# Altium integrated library Holtek Semiconductor Power Management.IntLib: 165 symbols (part 2 of 3)
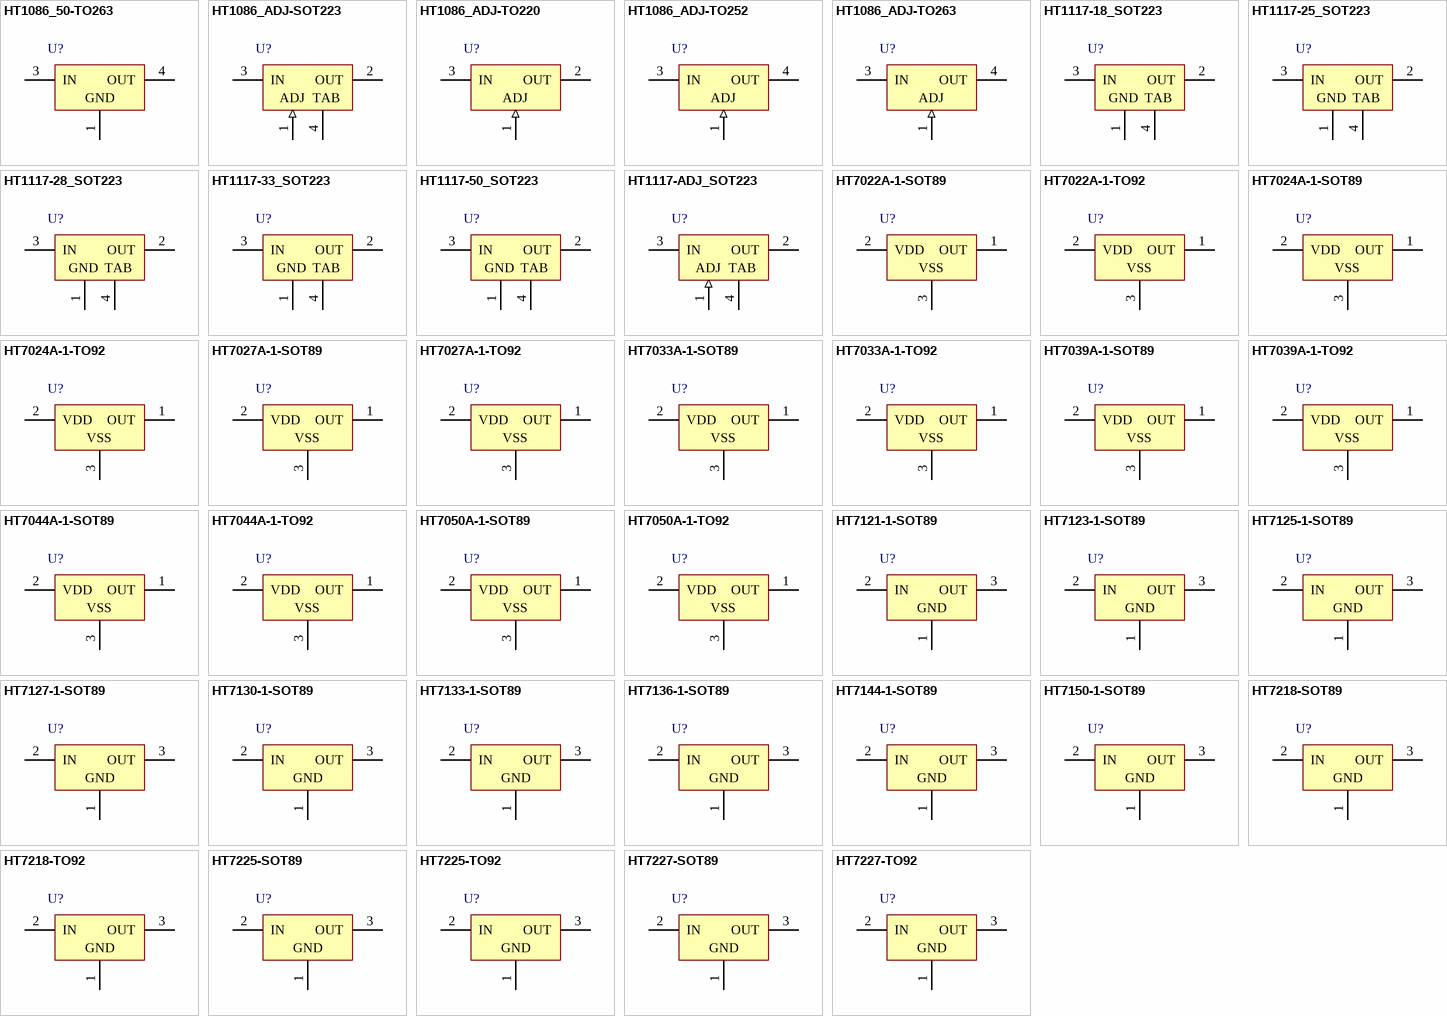
[diagram p5: symbols HT1086_50-TO263 to HT7227-TO92]

## HT7024A-1-TO92
designator U?
TinyPower Voltage Detector, 2.4V Detect, TO92 Pkg; DatasheetVersion: Rev1.5, Sep-2008; PackageVersion: 25/05/2010; PackageReference: TO92; PackageDescription: 3-pin TO92, Body Dia. 4.7mm; Lead Dia. 0.51 mm (max); ComponentLink1Description: Manufacturer URL; ComponentLink1URL: http://www.holtek.com/; ComponentLink2Description: Datasheet; ComponentLink2URL: http://www.holtek.com/pdf/consumer/70xxa_1v150.pdf; ComponentLink3Description: Package Specification; ComponentLink3URL: http://www.holtek.com/english/literature/package.pdf
footprint TO92 (TO, Flat Index; 3 In-Line, Axial Leads; Body Dia. 4.7mm; Lead Dia. 0.51 mm (max))
pins: 1 OUT (power), 2 VDD (power), 3 VSS (power)

## HT7027A-1-SOT89
designator U?
TinyPower Voltage Detector, 2.7V Detect, SOT89 Pkg; DatasheetVersion: Rev1.5, Sep-2008; PackageVersion: 25/05/2010; PackageReference: SOT89; PackageDescription: 3-Pin SOT-89 Package 1.5 mm Pitch, 4.1 mm Lead Span; Code_IPC: SOT89; ComponentLink1Description: Manufacturer URL; ComponentLink1URL: http://www.holtek.com/; ComponentLink2Description: Datasheet; ComponentLink2URL: http://www.holtek.com/pdf/consumer/70xxa_1v150.pdf; ComponentLink3Description: Package Specification; ComponentLink3URL: http://www.holtek.com/english/literature/package.pdf
footprint SOT89_N (SOT89, 3-Leads, Body 4.5x2.4 mm, Pitch 1.5mm, Lead Span 4.1mm, IPC Medium Density)
footprint SOT89_L (SOT89, 3-Leads, Body 4.5x2.4 mm, Pitch 1.5mm, Lead Span 4.1mm, IPC High Density)
footprint SOT89_M (SOT89, 3-Leads, Body 4.5x2.4 mm, Pitch 1.5mm, Lead Span 4.1mm, IPC Low Density)
pins: 1 OUT (power), 2 VDD (power), 3 VSS (power)

## HT7027A-1-TO92
designator U?
TinyPower Voltage Detector, 2.7V Detect, TO92 Pkg; DatasheetVersion: Rev1.5, Sep-2008; PackageVersion: 25/05/2010; PackageReference: TO92; PackageDescription: 3-pin TO92, Body Dia. 4.7mm; Lead Dia. 0.51 mm (max); ComponentLink1Description: Manufacturer URL; ComponentLink1URL: http://www.holtek.com/; ComponentLink2Description: Datasheet; ComponentLink2URL: http://www.holtek.com/pdf/consumer/70xxa_1v150.pdf; ComponentLink3Description: Package Specification; ComponentLink3URL: http://www.holtek.com/english/literature/package.pdf
footprint TO92 (TO, Flat Index; 3 In-Line, Axial Leads; Body Dia. 4.7mm; Lead Dia. 0.51 mm (max))
pins: 1 OUT (power), 2 VDD (power), 3 VSS (power)

## HT7033A-1-SOT89
designator U?
TinyPower Voltage Detector, 3.3V Detect, SOT89 Pkg; DatasheetVersion: Rev1.5, Sep-2008; PackageVersion: 25/05/2010; PackageReference: SOT89; PackageDescription: 3-Pin SOT-89 Package 1.5 mm Pitch, 4.1 mm Lead Span; Code_IPC: SOT89; ComponentLink1Description: Manufacturer URL; ComponentLink1URL: http://www.holtek.com/; ComponentLink2Description: Datasheet; ComponentLink2URL: http://www.holtek.com/pdf/consumer/70xxa_1v150.pdf; ComponentLink3Description: Package Specification; ComponentLink3URL: http://www.holtek.com/english/literature/package.pdf
footprint SOT89_N (SOT89, 3-Leads, Body 4.5x2.4 mm, Pitch 1.5mm, Lead Span 4.1mm, IPC Medium Density)
footprint SOT89_L (SOT89, 3-Leads, Body 4.5x2.4 mm, Pitch 1.5mm, Lead Span 4.1mm, IPC High Density)
footprint SOT89_M (SOT89, 3-Leads, Body 4.5x2.4 mm, Pitch 1.5mm, Lead Span 4.1mm, IPC Low Density)
pins: 1 OUT (power), 2 VDD (power), 3 VSS (power)

## HT7033A-1-TO92
designator U?
TinyPower Voltage Detector, 3.3V Detect, TO92 Pkg; DatasheetVersion: Rev1.5, Sep-2008; PackageVersion: 25/05/2010; PackageReference: TO92; PackageDescription: 3-pin TO92, Body Dia. 4.7mm; Lead Dia. 0.51 mm (max); ComponentLink1Description: Manufacturer URL; ComponentLink1URL: http://www.holtek.com/; ComponentLink2Description: Datasheet; ComponentLink2URL: http://www.holtek.com/pdf/consumer/70xxa_1v150.pdf; ComponentLink3Description: Package Specification; ComponentLink3URL: http://www.holtek.com/english/literature/package.pdf
footprint TO92 (TO, Flat Index; 3 In-Line, Axial Leads; Body Dia. 4.7mm; Lead Dia. 0.51 mm (max))
pins: 1 OUT (power), 2 VDD (power), 3 VSS (power)

## HT7039A-1-SOT89
designator U?
TinyPower Voltage Detector, 3.9V Detect, SOT89 Pkg; DatasheetVersion: Rev1.5, Sep-2008; PackageVersion: 25/05/2010; PackageReference: SOT89; PackageDescription: 3-Pin SOT-89 Package 1.5 mm Pitch, 4.1 mm Lead Span; Code_IPC: SOT89; ComponentLink1Description: Manufacturer URL; ComponentLink1URL: http://www.holtek.com/; ComponentLink2Description: Datasheet; ComponentLink2URL: http://www.holtek.com/pdf/consumer/70xxa_1v150.pdf; ComponentLink3Description: Package Specification; ComponentLink3URL: http://www.holtek.com/english/literature/package.pdf
footprint SOT89_N (SOT89, 3-Leads, Body 4.5x2.4 mm, Pitch 1.5mm, Lead Span 4.1mm, IPC Medium Density)
footprint SOT89_L (SOT89, 3-Leads, Body 4.5x2.4 mm, Pitch 1.5mm, Lead Span 4.1mm, IPC High Density)
footprint SOT89_M (SOT89, 3-Leads, Body 4.5x2.4 mm, Pitch 1.5mm, Lead Span 4.1mm, IPC Low Density)
pins: 1 OUT (power), 2 VDD (power), 3 VSS (power)

## HT7039A-1-TO92
designator U?
TinyPower Voltage Detector, 3.9V Detect, TO92 Pkg; DatasheetVersion: Rev1.5, Sep-2008; PackageVersion: 25/05/2010; PackageReference: TO92; PackageDescription: 3-pin TO92, Body Dia. 4.7mm; Lead Dia. 0.51 mm (max); ComponentLink1Description: Manufacturer URL; ComponentLink1URL: http://www.holtek.com/; ComponentLink2Description: Datasheet; ComponentLink2URL: http://www.holtek.com/pdf/consumer/70xxa_1v150.pdf; ComponentLink3Description: Package Specification; ComponentLink3URL: http://www.holtek.com/english/literature/package.pdf
footprint TO92 (TO, Flat Index; 3 In-Line, Axial Leads; Body Dia. 4.7mm; Lead Dia. 0.51 mm (max))
pins: 1 OUT (power), 2 VDD (power), 3 VSS (power)

## HT7044A-1-SOT89
designator U?
TinyPower Voltage Detector, 4.4V Detect, SOT89 Pkg; DatasheetVersion: Rev1.5, Sep-2008; PackageVersion: 25/05/2010; PackageReference: SOT89; PackageDescription: 3-Pin SOT-89 Package 1.5 mm Pitch, 4.1 mm Lead Span; Code_IPC: SOT89; ComponentLink1Description: Manufacturer URL; ComponentLink1URL: http://www.holtek.com/; ComponentLink2Description: Datasheet; ComponentLink2URL: http://www.holtek.com/pdf/consumer/70xxa_1v150.pdf; ComponentLink3Description: Package Specification; ComponentLink3URL: http://www.holtek.com/english/literature/package.pdf
footprint SOT89_N (SOT89, 3-Leads, Body 4.5x2.4 mm, Pitch 1.5mm, Lead Span 4.1mm, IPC Medium Density)
footprint SOT89_L (SOT89, 3-Leads, Body 4.5x2.4 mm, Pitch 1.5mm, Lead Span 4.1mm, IPC High Density)
footprint SOT89_M (SOT89, 3-Leads, Body 4.5x2.4 mm, Pitch 1.5mm, Lead Span 4.1mm, IPC Low Density)
pins: 1 OUT (power), 2 VDD (power), 3 VSS (power)

## HT7044A-1-TO92
designator U?
TinyPower Voltage Detector, 4.4V Detect, TO92 Pkg; DatasheetVersion: Rev1.5, Sep-2008; PackageVersion: 25/05/2010; PackageReference: TO92; PackageDescription: 3-pin TO92, Body Dia. 4.7mm; Lead Dia. 0.51 mm (max); ComponentLink1Description: Manufacturer URL; ComponentLink1URL: http://www.holtek.com/; ComponentLink2Description: Datasheet; ComponentLink2URL: http://www.holtek.com/pdf/consumer/70xxa_1v150.pdf; ComponentLink3Description: Package Specification; ComponentLink3URL: http://www.holtek.com/english/literature/package.pdf
footprint TO92 (TO, Flat Index; 3 In-Line, Axial Leads; Body Dia. 4.7mm; Lead Dia. 0.51 mm (max))
pins: 1 OUT (power), 2 VDD (power), 3 VSS (power)

## HT7050A-1-SOT89
designator U?
TinyPower Voltage Detector, 5.0V Detect, SOT89 Pkg; DatasheetVersion: Rev1.5, Sep-2008; PackageVersion: 25/05/2010; PackageReference: SOT89; PackageDescription: 3-Pin SOT-89 Package 1.5 mm Pitch, 4.1 mm Lead Span; Code_IPC: SOT89; ComponentLink1Description: Manufacturer URL; ComponentLink1URL: http://www.holtek.com/; ComponentLink2Description: Datasheet; ComponentLink2URL: http://www.holtek.com/pdf/consumer/70xxa_1v150.pdf; ComponentLink3Description: Package Specification; ComponentLink3URL: http://www.holtek.com/english/literature/package.pdf
footprint SOT89_N (SOT89, 3-Leads, Body 4.5x2.4 mm, Pitch 1.5mm, Lead Span 4.1mm, IPC Medium Density)
footprint SOT89_L (SOT89, 3-Leads, Body 4.5x2.4 mm, Pitch 1.5mm, Lead Span 4.1mm, IPC High Density)
footprint SOT89_M (SOT89, 3-Leads, Body 4.5x2.4 mm, Pitch 1.5mm, Lead Span 4.1mm, IPC Low Density)
pins: 1 OUT (power), 2 VDD (power), 3 VSS (power)

## HT7050A-1-TO92
designator U?
TinyPower Voltage Detector, 5.0V Detect, TO92 Pkg; DatasheetVersion: Rev1.5, Sep-2008; PackageVersion: 25/05/2010; PackageReference: TO92; PackageDescription: 3-pin TO92, Body Dia. 4.7mm; Lead Dia. 0.51 mm (max); ComponentLink1Description: Manufacturer URL; ComponentLink1URL: http://www.holtek.com/; ComponentLink2Description: Datasheet; ComponentLink2URL: http://www.holtek.com/pdf/consumer/70xxa_1v150.pdf; ComponentLink3Description: Package Specification; ComponentLink3URL: http://www.holtek.com/english/literature/package.pdf
footprint TO92 (TO, Flat Index; 3 In-Line, Axial Leads; Body Dia. 4.7mm; Lead Dia. 0.51 mm (max))
pins: 1 OUT (power), 2 VDD (power), 3 VSS (power)

## HT7121-1-SOT89
designator U?
30mA Low Power LDO, Output Voltage 2.1V, SOT89 Pkg; DatasheetVersion: Rev1.7, Feb-2009; PackageVersion: 25/05/2010; PackageReference: SOT89; PackageDescription: 3-Pin SOT-89 Package 1.5 mm Pitch, 4.1 mm Lead Span; Code_IPC: SOT89; ComponentLink1Description: Manufacturer URL; ComponentLink1URL: http://www.holtek.com/; ComponentLink2Description: Datasheet; ComponentLink2URL: http://www.holtek.com/pdf/consumer/71xx_1v170.pdf; ComponentLink3Description: Package Specification; ComponentLink3URL: http://www.holtek.com/english/literature/package.pdf
footprint SOT89_N (SOT89, 3-Leads, Body 4.5x2.4 mm, Pitch 1.5mm, Lead Span 4.1mm, IPC Medium Density)
footprint SOT89_L (SOT89, 3-Leads, Body 4.5x2.4 mm, Pitch 1.5mm, Lead Span 4.1mm, IPC High Density)
footprint SOT89_M (SOT89, 3-Leads, Body 4.5x2.4 mm, Pitch 1.5mm, Lead Span 4.1mm, IPC Low Density)
pins: 1 GND (power), 2 IN (power), 3 OUT (power)

## HT7123-1-SOT89
designator U?
30mA Low Power LDO, Output Voltage 2.3V, SOT89 Pkg; DatasheetVersion: Rev1.7, Feb-2009; PackageVersion: 25/05/2010; PackageReference: SOT89; PackageDescription: 3-Pin SOT-89 Package 1.5 mm Pitch, 4.1 mm Lead Span; Code_IPC: SOT89; ComponentLink1Description: Manufacturer URL; ComponentLink1URL: http://www.holtek.com/; ComponentLink2Description: Datasheet; ComponentLink2URL: http://www.holtek.com/pdf/consumer/71xx_1v170.pdf; ComponentLink3Description: Package Specification; ComponentLink3URL: http://www.holtek.com/english/literature/package.pdf
footprint SOT89_N (SOT89, 3-Leads, Body 4.5x2.4 mm, Pitch 1.5mm, Lead Span 4.1mm, IPC Medium Density)
footprint SOT89_L (SOT89, 3-Leads, Body 4.5x2.4 mm, Pitch 1.5mm, Lead Span 4.1mm, IPC High Density)
footprint SOT89_M (SOT89, 3-Leads, Body 4.5x2.4 mm, Pitch 1.5mm, Lead Span 4.1mm, IPC Low Density)
pins: 1 GND (power), 2 IN (power), 3 OUT (power)

## HT7125-1-SOT89
designator U?
30mA Low Power LDO, Output Voltage 2.5V, SOT89 Pkg; DatasheetVersion: Rev1.7, Feb-2009; PackageVersion: 25/05/2010; PackageReference: SOT89; PackageDescription: 3-Pin SOT-89 Package 1.5 mm Pitch, 4.1 mm Lead Span; Code_IPC: SOT89; ComponentLink1Description: Manufacturer URL; ComponentLink1URL: http://www.holtek.com/; ComponentLink2Description: Datasheet; ComponentLink2URL: http://www.holtek.com/pdf/consumer/71xx_1v170.pdf; ComponentLink3Description: Package Specification; ComponentLink3URL: http://www.holtek.com/english/literature/package.pdf
footprint SOT89_N (SOT89, 3-Leads, Body 4.5x2.4 mm, Pitch 1.5mm, Lead Span 4.1mm, IPC Medium Density)
footprint SOT89_L (SOT89, 3-Leads, Body 4.5x2.4 mm, Pitch 1.5mm, Lead Span 4.1mm, IPC High Density)
footprint SOT89_M (SOT89, 3-Leads, Body 4.5x2.4 mm, Pitch 1.5mm, Lead Span 4.1mm, IPC Low Density)
pins: 1 GND (power), 2 IN (power), 3 OUT (power)

## HT7127-1-SOT89
designator U?
30mA Low Power LDO, Output Voltage 2.7V, SOT89 Pkg; DatasheetVersion: Rev1.7, Feb-2009; PackageVersion: 25/05/2010; PackageReference: SOT89; PackageDescription: 3-Pin SOT-89 Package 1.5 mm Pitch, 4.1 mm Lead Span; Code_IPC: SOT89; ComponentLink1Description: Manufacturer URL; ComponentLink1URL: http://www.holtek.com/; ComponentLink2Description: Datasheet; ComponentLink2URL: http://www.holtek.com/pdf/consumer/71xx_1v170.pdf; ComponentLink3Description: Package Specification; ComponentLink3URL: http://www.holtek.com/english/literature/package.pdf
footprint SOT89_N (SOT89, 3-Leads, Body 4.5x2.4 mm, Pitch 1.5mm, Lead Span 4.1mm, IPC Medium Density)
footprint SOT89_L (SOT89, 3-Leads, Body 4.5x2.4 mm, Pitch 1.5mm, Lead Span 4.1mm, IPC High Density)
footprint SOT89_M (SOT89, 3-Leads, Body 4.5x2.4 mm, Pitch 1.5mm, Lead Span 4.1mm, IPC Low Density)
pins: 1 GND (power), 2 IN (power), 3 OUT (power)

## HT7130-1-SOT89
designator U?
30mA Low Power LDO, Output Voltage 3.0V, SOT89 Pkg; DatasheetVersion: Rev1.7, Feb-2009; PackageVersion: 25/05/2010; PackageReference: SOT89; PackageDescription: 3-Pin SOT-89 Package 1.5 mm Pitch, 4.1 mm Lead Span; Code_IPC: SOT89; ComponentLink1Description: Manufacturer URL; ComponentLink1URL: http://www.holtek.com/; ComponentLink2Description: Datasheet; ComponentLink2URL: http://www.holtek.com/pdf/consumer/71xx_1v170.pdf; ComponentLink3Description: Package Specification; ComponentLink3URL: http://www.holtek.com/english/literature/package.pdf
footprint SOT89_N (SOT89, 3-Leads, Body 4.5x2.4 mm, Pitch 1.5mm, Lead Span 4.1mm, IPC Medium Density)
footprint SOT89_L (SOT89, 3-Leads, Body 4.5x2.4 mm, Pitch 1.5mm, Lead Span 4.1mm, IPC High Density)
footprint SOT89_M (SOT89, 3-Leads, Body 4.5x2.4 mm, Pitch 1.5mm, Lead Span 4.1mm, IPC Low Density)
pins: 1 GND (power), 2 IN (power), 3 OUT (power)

## HT7133-1-SOT89
designator U?
30mA Low Power LDO, Output Voltage 3.3V, SOT89 Pkg; DatasheetVersion: Rev1.7, Feb-2009; PackageVersion: 25/05/2010; PackageReference: SOT89; PackageDescription: 3-Pin SOT-89 Package 1.5 mm Pitch, 4.1 mm Lead Span; Code_IPC: SOT89; ComponentLink1Description: Manufacturer URL; ComponentLink1URL: http://www.holtek.com/; ComponentLink2Description: Datasheet; ComponentLink2URL: http://www.holtek.com/pdf/consumer/71xx_1v170.pdf; ComponentLink3Description: Package Specification; ComponentLink3URL: http://www.holtek.com/english/literature/package.pdf
footprint SOT89_N (SOT89, 3-Leads, Body 4.5x2.4 mm, Pitch 1.5mm, Lead Span 4.1mm, IPC Medium Density)
footprint SOT89_L (SOT89, 3-Leads, Body 4.5x2.4 mm, Pitch 1.5mm, Lead Span 4.1mm, IPC High Density)
footprint SOT89_M (SOT89, 3-Leads, Body 4.5x2.4 mm, Pitch 1.5mm, Lead Span 4.1mm, IPC Low Density)
pins: 1 GND (power), 2 IN (power), 3 OUT (power)

## HT7136-1-SOT89
designator U?
30mA Low Power LDO, Output Voltage 3.6V, SOT89 Pkg; DatasheetVersion: Rev1.7, Feb-2009; PackageVersion: 25/05/2010; PackageReference: SOT89; PackageDescription: 3-Pin SOT-89 Package 1.5 mm Pitch, 4.1 mm Lead Span; Code_IPC: SOT89; ComponentLink1Description: Manufacturer URL; ComponentLink1URL: http://www.holtek.com/; ComponentLink2Description: Datasheet; ComponentLink2URL: http://www.holtek.com/pdf/consumer/71xx_1v170.pdf; ComponentLink3Description: Package Specification; ComponentLink3URL: http://www.holtek.com/english/literature/package.pdf
footprint SOT89_N (SOT89, 3-Leads, Body 4.5x2.4 mm, Pitch 1.5mm, Lead Span 4.1mm, IPC Medium Density)
footprint SOT89_L (SOT89, 3-Leads, Body 4.5x2.4 mm, Pitch 1.5mm, Lead Span 4.1mm, IPC High Density)
footprint SOT89_M (SOT89, 3-Leads, Body 4.5x2.4 mm, Pitch 1.5mm, Lead Span 4.1mm, IPC Low Density)
pins: 1 GND (power), 2 IN (power), 3 OUT (power)

## HT7144-1-SOT89
designator U?
30mA Low Power LDO, Output Voltage 4.4V, SOT89 Pkg; DatasheetVersion: Rev1.7, Feb-2009; PackageVersion: 25/05/2010; PackageReference: SOT89; PackageDescription: 3-Pin SOT-89 Package 1.5 mm Pitch, 4.1 mm Lead Span; Code_IPC: SOT89; ComponentLink1Description: Manufacturer URL; ComponentLink1URL: http://www.holtek.com/; ComponentLink2Description: Datasheet; ComponentLink2URL: http://www.holtek.com/pdf/consumer/71xx_1v170.pdf; ComponentLink3Description: Package Specification; ComponentLink3URL: http://www.holtek.com/english/literature/package.pdf
footprint SOT89_N (SOT89, 3-Leads, Body 4.5x2.4 mm, Pitch 1.5mm, Lead Span 4.1mm, IPC Medium Density)
footprint SOT89_L (SOT89, 3-Leads, Body 4.5x2.4 mm, Pitch 1.5mm, Lead Span 4.1mm, IPC High Density)
footprint SOT89_M (SOT89, 3-Leads, Body 4.5x2.4 mm, Pitch 1.5mm, Lead Span 4.1mm, IPC Low Density)
pins: 1 GND (power), 2 IN (power), 3 OUT (power)

## HT7150-1-SOT89
designator U?
30mA Low Power LDO, Output Voltage 5.0V, SOT89 Pkg; DatasheetVersion: Rev1.7, Feb-2009; PackageVersion: 25/05/2010; PackageReference: SOT89; PackageDescription: 3-Pin SOT-89 Package 1.5 mm Pitch, 4.1 mm Lead Span; Code_IPC: SOT89; ComponentLink1Description: Manufacturer URL; ComponentLink1URL: http://www.holtek.com/; ComponentLink2Description: Datasheet; ComponentLink2URL: http://www.holtek.com/pdf/consumer/71xx_1v170.pdf; ComponentLink3Description: Package Specification; ComponentLink3URL: http://www.holtek.com/english/literature/package.pdf
footprint SOT89_N (SOT89, 3-Leads, Body 4.5x2.4 mm, Pitch 1.5mm, Lead Span 4.1mm, IPC Medium Density)
footprint SOT89_L (SOT89, 3-Leads, Body 4.5x2.4 mm, Pitch 1.5mm, Lead Span 4.1mm, IPC High Density)
footprint SOT89_M (SOT89, 3-Leads, Body 4.5x2.4 mm, Pitch 1.5mm, Lead Span 4.1mm, IPC Low Density)
pins: 1 GND (power), 2 IN (power), 3 OUT (power)

## HT7218-SOT89
designator U?
300mA TinyPowerTM LDO, Output Voltage 1.8V, SOT89 Pkg; DatasheetVersion: Rev1.2, Sep-2008; PackageVersion: 25/05/2010; PackageReference: SOT89; PackageDescription: 3-Pin SOT-89 Package 1.5 mm Pitch, 4.1 mm Lead Span; Code_IPC: SOT89; ComponentLink1Description: Manufacturer URL; ComponentLink1URL: http://www.holtek.com/; ComponentLink2Description: Datasheet; ComponentLink2URL: http://www.holtek.com/pdf/consumer/72xxv120.pdf; ComponentLink3Description: Package Specification; ComponentLink3URL: http://www.holtek.com/english/literature/package.pdf
footprint SOT89_N (SOT89, 3-Leads, Body 4.5x2.4 mm, Pitch 1.5mm, Lead Span 4.1mm, IPC Medium Density)
footprint SOT89_L (SOT89, 3-Leads, Body 4.5x2.4 mm, Pitch 1.5mm, Lead Span 4.1mm, IPC High Density)
footprint SOT89_M (SOT89, 3-Leads, Body 4.5x2.4 mm, Pitch 1.5mm, Lead Span 4.1mm, IPC Low Density)
pins: 1 GND (power), 2 IN (power), 3 OUT (power)

## HT7218-TO92
designator U?
300mA TinyPowerTM LDO, Output Voltage 1.8V, TO92 Pkg; DatasheetVersion: Rev1.2, Sep-2008; PackageVersion: 25/05/2010; PackageReference: TO92; PackageDescription: 3-pin TO92, Body Dia. 4.7mm; Lead Dia. 0.51 mm (max); ComponentLink1Description: Manufacturer URL; ComponentLink1URL: http://www.holtek.com/; ComponentLink2Description: Datasheet; ComponentLink2URL: http://www.holtek.com/pdf/consumer/72xxv120.pdf; ComponentLink3Description: Package Specification; ComponentLink3URL: http://www.holtek.com/english/literature/package.pdf
footprint TO92 (TO, Flat Index; 3 In-Line, Axial Leads; Body Dia. 4.7mm; Lead Dia. 0.51 mm (max))
pins: 1 GND (power), 2 IN (power), 3 OUT (power)

## HT7225-SOT89
designator U?
300mA TinyPowerTM LDO, Output Voltage 2.5V, SOT89 Pkg; DatasheetVersion: Rev1.2, Sep-2008; PackageVersion: 25/05/2010; PackageReference: SOT89; PackageDescription: 3-Pin SOT-89 Package 1.5 mm Pitch, 4.1 mm Lead Span; Code_IPC: SOT89; ComponentLink1Description: Manufacturer URL; ComponentLink1URL: http://www.holtek.com/; ComponentLink2Description: Datasheet; ComponentLink2URL: http://www.holtek.com/pdf/consumer/72xxv120.pdf; ComponentLink3Description: Package Specification; ComponentLink3URL: http://www.holtek.com/english/literature/package.pdf
footprint SOT89_N (SOT89, 3-Leads, Body 4.5x2.4 mm, Pitch 1.5mm, Lead Span 4.1mm, IPC Medium Density)
footprint SOT89_L (SOT89, 3-Leads, Body 4.5x2.4 mm, Pitch 1.5mm, Lead Span 4.1mm, IPC High Density)
footprint SOT89_M (SOT89, 3-Leads, Body 4.5x2.4 mm, Pitch 1.5mm, Lead Span 4.1mm, IPC Low Density)
pins: 1 GND (power), 2 IN (power), 3 OUT (power)

## HT7225-TO92
designator U?
300mA TinyPowerTM LDO, Output Voltage 2.5V, TO92 Pkg; DatasheetVersion: Rev1.2, Sep-2008; PackageVersion: 25/05/2010; PackageReference: TO92; PackageDescription: 3-pin TO92, Body Dia. 4.7mm; Lead Dia. 0.51 mm (max); ComponentLink1Description: Manufacturer URL; ComponentLink1URL: http://www.holtek.com/; ComponentLink2Description: Datasheet; ComponentLink2URL: http://www.holtek.com/pdf/consumer/72xxv120.pdf; ComponentLink3Description: Package Specification; ComponentLink3URL: http://www.holtek.com/english/literature/package.pdf
footprint TO92 (TO, Flat Index; 3 In-Line, Axial Leads; Body Dia. 4.7mm; Lead Dia. 0.51 mm (max))
pins: 1 GND (power), 2 IN (power), 3 OUT (power)

## HT7227-SOT89
designator U?
300mA TinyPowerTM LDO, Output Voltage 2.7V, SOT89 Pkg; DatasheetVersion: Rev1.2, Sep-2008; PackageVersion: 25/05/2010; PackageReference: SOT89; PackageDescription: 3-Pin SOT-89 Package 1.5 mm Pitch, 4.1 mm Lead Span; Code_IPC: SOT89; ComponentLink1Description: Manufacturer URL; ComponentLink1URL: http://www.holtek.com/; ComponentLink2Description: Datasheet; ComponentLink2URL: http://www.holtek.com/pdf/consumer/72xxv120.pdf; ComponentLink3Description: Package Specification; ComponentLink3URL: http://www.holtek.com/english/literature/package.pdf
footprint SOT89_N (SOT89, 3-Leads, Body 4.5x2.4 mm, Pitch 1.5mm, Lead Span 4.1mm, IPC Medium Density)
footprint SOT89_L (SOT89, 3-Leads, Body 4.5x2.4 mm, Pitch 1.5mm, Lead Span 4.1mm, IPC High Density)
footprint SOT89_M (SOT89, 3-Leads, Body 4.5x2.4 mm, Pitch 1.5mm, Lead Span 4.1mm, IPC Low Density)
pins: 1 GND (power), 2 IN (power), 3 OUT (power)

## HT7227-TO92
designator U?
300mA TinyPowerTM LDO, Output Voltage 2.7V, TO92 Pkg; DatasheetVersion: Rev1.2, Sep-2008; PackageVersion: 25/05/2010; PackageReference: TO92; PackageDescription: 3-pin TO92, Body Dia. 4.7mm; Lead Dia. 0.51 mm (max); ComponentLink1Description: Manufacturer URL; ComponentLink1URL: http://www.holtek.com/; ComponentLink2Description: Datasheet; ComponentLink2URL: http://www.holtek.com/pdf/consumer/72xxv120.pdf; ComponentLink3Description: Package Specification; ComponentLink3URL: http://www.holtek.com/english/literature/package.pdf
footprint TO92 (TO, Flat Index; 3 In-Line, Axial Leads; Body Dia. 4.7mm; Lead Dia. 0.51 mm (max))
pins: 1 GND (power), 2 IN (power), 3 OUT (power)

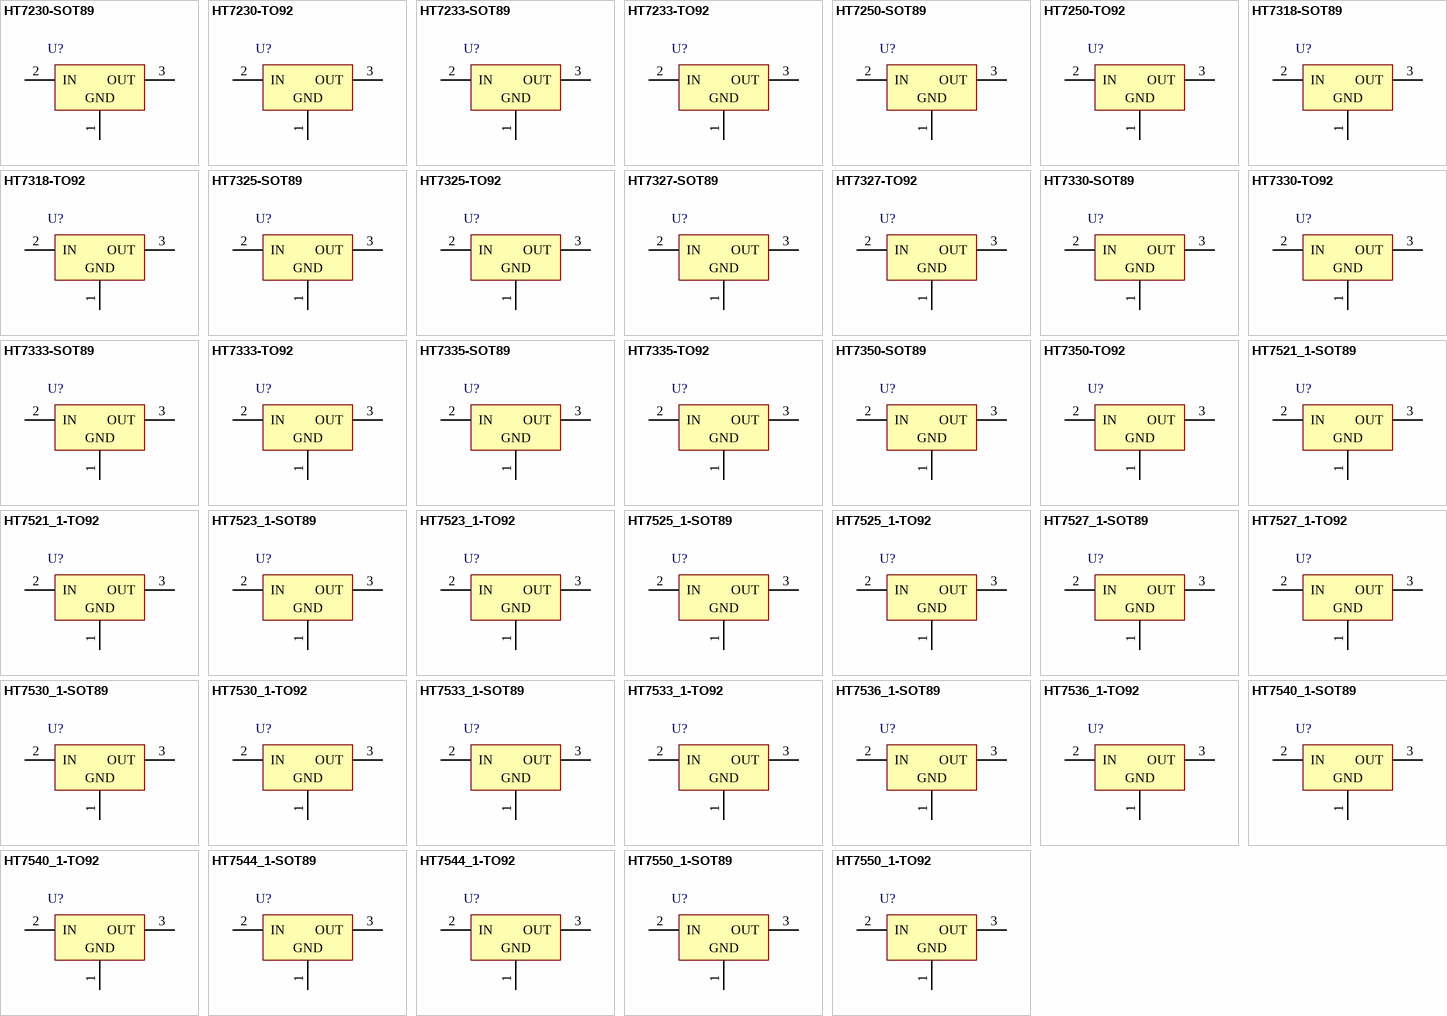
[diagram p2: symbols HT7230-SOT89 to HT7550_1-TO92]

## HT7230-SOT89
designator U?
300mA TinyPowerTM LDO, Output Voltage 3.0V, SOT89 Pkg; DatasheetVersion: Rev1.2, Sep-2008; PackageVersion: 25/05/2010; PackageReference: SOT89; PackageDescription: 3-Pin SOT-89 Package 1.5 mm Pitch, 4.1 mm Lead Span; Code_IPC: SOT89; ComponentLink1Description: Manufacturer URL; ComponentLink1URL: http://www.holtek.com/; ComponentLink2Description: Datasheet; ComponentLink2URL: http://www.holtek.com/pdf/consumer/72xxv120.pdf; ComponentLink3Description: Package Specification; ComponentLink3URL: http://www.holtek.com/english/literature/package.pdf
footprint SOT89_N (SOT89, 3-Leads, Body 4.5x2.4 mm, Pitch 1.5mm, Lead Span 4.1mm, IPC Medium Density)
footprint SOT89_L (SOT89, 3-Leads, Body 4.5x2.4 mm, Pitch 1.5mm, Lead Span 4.1mm, IPC High Density)
footprint SOT89_M (SOT89, 3-Leads, Body 4.5x2.4 mm, Pitch 1.5mm, Lead Span 4.1mm, IPC Low Density)
pins: 1 GND (power), 2 IN (power), 3 OUT (power)

## HT7230-TO92
designator U?
300mA TinyPowerTM LDO, Output Voltage 3.0V, TO92 Pkg; DatasheetVersion: Rev1.2, Sep-2008; PackageVersion: 25/05/2010; PackageReference: TO92; PackageDescription: 3-pin TO92, Body Dia. 4.7mm; Lead Dia. 0.51 mm (max); ComponentLink1Description: Manufacturer URL; ComponentLink1URL: http://www.holtek.com/; ComponentLink2Description: Datasheet; ComponentLink2URL: http://www.holtek.com/pdf/consumer/72xxv120.pdf; ComponentLink3Description: Package Specification; ComponentLink3URL: http://www.holtek.com/english/literature/package.pdf
footprint TO92 (TO, Flat Index; 3 In-Line, Axial Leads; Body Dia. 4.7mm; Lead Dia. 0.51 mm (max))
pins: 1 GND (power), 2 IN (power), 3 OUT (power)

## HT7233-SOT89
designator U?
300mA TinyPowerTM LDO, Output Voltage 3.3V, SOT89 Pkg; DatasheetVersion: Rev1.2, Sep-2008; PackageVersion: 25/05/2010; PackageReference: SOT89; PackageDescription: 3-Pin SOT-89 Package 1.5 mm Pitch, 4.1 mm Lead Span; Code_IPC: SOT89; ComponentLink1Description: Manufacturer URL; ComponentLink1URL: http://www.holtek.com/; ComponentLink2Description: Datasheet; ComponentLink2URL: http://www.holtek.com/pdf/consumer/72xxv120.pdf; ComponentLink3Description: Package Specification; ComponentLink3URL: http://www.holtek.com/english/literature/package.pdf
footprint SOT89_N (SOT89, 3-Leads, Body 4.5x2.4 mm, Pitch 1.5mm, Lead Span 4.1mm, IPC Medium Density)
footprint SOT89_L (SOT89, 3-Leads, Body 4.5x2.4 mm, Pitch 1.5mm, Lead Span 4.1mm, IPC High Density)
footprint SOT89_M (SOT89, 3-Leads, Body 4.5x2.4 mm, Pitch 1.5mm, Lead Span 4.1mm, IPC Low Density)
pins: 1 GND (power), 2 IN (power), 3 OUT (power)

## HT7233-TO92
designator U?
300mA TinyPowerTM LDO, Output Voltage 3.3V, TO92 Pkg; DatasheetVersion: Rev1.2, Sep-2008; PackageVersion: 25/05/2010; PackageReference: TO92; PackageDescription: 3-pin TO92, Body Dia. 4.7mm; Lead Dia. 0.51 mm (max); ComponentLink1Description: Manufacturer URL; ComponentLink1URL: http://www.holtek.com/; ComponentLink2Description: Datasheet; ComponentLink2URL: http://www.holtek.com/pdf/consumer/72xxv120.pdf; ComponentLink3Description: Package Specification; ComponentLink3URL: http://www.holtek.com/english/literature/package.pdf
footprint TO92 (TO, Flat Index; 3 In-Line, Axial Leads; Body Dia. 4.7mm; Lead Dia. 0.51 mm (max))
pins: 1 GND (power), 2 IN (power), 3 OUT (power)

## HT7250-SOT89
designator U?
300mA TinyPowerTM LDO, Output Voltage 5.0V, SOT89 Pkg; DatasheetVersion: Rev1.2, Sep-2008; PackageVersion: 25/05/2010; PackageReference: SOT89; PackageDescription: 3-Pin SOT-89 Package 1.5 mm Pitch, 4.1 mm Lead Span; Code_IPC: SOT89; ComponentLink1Description: Manufacturer URL; ComponentLink1URL: http://www.holtek.com/; ComponentLink2Description: Datasheet; ComponentLink2URL: http://www.holtek.com/pdf/consumer/72xxv120.pdf; ComponentLink3Description: Package Specification; ComponentLink3URL: http://www.holtek.com/english/literature/package.pdf
footprint SOT89_N (SOT89, 3-Leads, Body 4.5x2.4 mm, Pitch 1.5mm, Lead Span 4.1mm, IPC Medium Density)
footprint SOT89_L (SOT89, 3-Leads, Body 4.5x2.4 mm, Pitch 1.5mm, Lead Span 4.1mm, IPC High Density)
footprint SOT89_M (SOT89, 3-Leads, Body 4.5x2.4 mm, Pitch 1.5mm, Lead Span 4.1mm, IPC Low Density)
pins: 1 GND (power), 2 IN (power), 3 OUT (power)

## HT7250-TO92
designator U?
300mA TinyPowerTM LDO, Output Voltage 5.0V, TO92 Pkg; DatasheetVersion: Rev1.2, Sep-2008; PackageVersion: 25/05/2010; PackageReference: TO92; PackageDescription: 3-pin TO92, Body Dia. 4.7mm; Lead Dia. 0.51 mm (max); ComponentLink1Description: Manufacturer URL; ComponentLink1URL: http://www.holtek.com/; ComponentLink2Description: Datasheet; ComponentLink2URL: http://www.holtek.com/pdf/consumer/72xxv120.pdf; ComponentLink3Description: Package Specification; ComponentLink3URL: http://www.holtek.com/english/literature/package.pdf
footprint TO92 (TO, Flat Index; 3 In-Line, Axial Leads; Body Dia. 4.7mm; Lead Dia. 0.51 mm (max))
pins: 1 GND (power), 2 IN (power), 3 OUT (power)

## HT7318-SOT89
designator U?
Low Power Consumption LDO, Output Voltage 1.8V, SOT89 Pkg; DatasheetVersion: Rev1.4, Jan-2006; PackageVersion: 25/05/2010; PackageReference: SOT89; PackageDescription: 3-Pin SOT-89 Package 1.5 mm Pitch, 4.1 mm Lead Span; Code_IPC: SOT89; ComponentLink1Description: Manufacturer URL; ComponentLink1URL: http://www.holtek.com/; ComponentLink2Description: Datasheet; ComponentLink2URL: http://www.holtek.com/pdf/consumer/73xxv140.pdf; ComponentLink3Description: Package Specification; ComponentLink3URL: http://www.holtek.com/english/literature/package.pdf
footprint SOT89_N (SOT89, 3-Leads, Body 4.5x2.4 mm, Pitch 1.5mm, Lead Span 4.1mm, IPC Medium Density)
footprint SOT89_L (SOT89, 3-Leads, Body 4.5x2.4 mm, Pitch 1.5mm, Lead Span 4.1mm, IPC High Density)
footprint SOT89_M (SOT89, 3-Leads, Body 4.5x2.4 mm, Pitch 1.5mm, Lead Span 4.1mm, IPC Low Density)
pins: 1 GND (power), 2 IN (power), 3 OUT (power)

## HT7318-TO92
designator U?
Low Power Consumption LDO, Output Voltage 1.8V, TO92 Pkg; DatasheetVersion: Rev1.4, Jan-2006; PackageVersion: 25/05/2010; PackageReference: TO92; PackageDescription: 3-pin TO92, Body Dia. 4.7mm; Lead Dia. 0.51 mm (max); ComponentLink1Description: Manufacturer URL; ComponentLink1URL: http://www.holtek.com/; ComponentLink2Description: Datasheet; ComponentLink2URL: http://www.holtek.com/pdf/consumer/73xxv140.pdf; ComponentLink3Description: Package Specification; ComponentLink3URL: http://www.holtek.com/english/literature/package.pdf
footprint TO92 (TO, Flat Index; 3 In-Line, Axial Leads; Body Dia. 4.7mm; Lead Dia. 0.51 mm (max))
pins: 1 GND (power), 2 IN (power), 3 OUT (power)

## HT7325-SOT89
designator U?
Low Power Consumption LDO, Output Voltage 2.5V, SOT89 Pkg; DatasheetVersion: Rev1.4, Jan-2006; PackageVersion: 25/05/2010; PackageReference: SOT89; PackageDescription: 3-Pin SOT-89 Package 1.5 mm Pitch, 4.1 mm Lead Span; Code_IPC: SOT89; ComponentLink1Description: Manufacturer URL; ComponentLink1URL: http://www.holtek.com/; ComponentLink2Description: Datasheet; ComponentLink2URL: http://www.holtek.com/pdf/consumer/73xxv140.pdf; ComponentLink3Description: Package Specification; ComponentLink3URL: http://www.holtek.com/english/literature/package.pdf
footprint SOT89_N (SOT89, 3-Leads, Body 4.5x2.4 mm, Pitch 1.5mm, Lead Span 4.1mm, IPC Medium Density)
footprint SOT89_L (SOT89, 3-Leads, Body 4.5x2.4 mm, Pitch 1.5mm, Lead Span 4.1mm, IPC High Density)
footprint SOT89_M (SOT89, 3-Leads, Body 4.5x2.4 mm, Pitch 1.5mm, Lead Span 4.1mm, IPC Low Density)
pins: 1 GND (power), 2 IN (power), 3 OUT (power)

## HT7325-TO92
designator U?
Low Power Consumption LDO, Output Voltage 2.5V, TO92 Pkg; DatasheetVersion: Rev1.4, Jan-2006; PackageVersion: 25/05/2010; PackageReference: TO92; PackageDescription: 3-pin TO92, Body Dia. 4.7mm; Lead Dia. 0.51 mm (max); ComponentLink1Description: Manufacturer URL; ComponentLink1URL: http://www.holtek.com/; ComponentLink2Description: Datasheet; ComponentLink2URL: http://www.holtek.com/pdf/consumer/73xxv140.pdf; ComponentLink3Description: Package Specification; ComponentLink3URL: http://www.holtek.com/english/literature/package.pdf
footprint TO92 (TO, Flat Index; 3 In-Line, Axial Leads; Body Dia. 4.7mm; Lead Dia. 0.51 mm (max))
pins: 1 GND (power), 2 IN (power), 3 OUT (power)

## HT7327-SOT89
designator U?
Low Power Consumption LDO, Output Voltage 2.7V, SOT89 Pkg; DatasheetVersion: Rev1.4, Jan-2006; PackageVersion: 25/05/2010; PackageReference: SOT89; PackageDescription: 3-Pin SOT-89 Package 1.5 mm Pitch, 4.1 mm Lead Span; Code_IPC: SOT89; ComponentLink1Description: Manufacturer URL; ComponentLink1URL: http://www.holtek.com/; ComponentLink2Description: Datasheet; ComponentLink2URL: http://www.holtek.com/pdf/consumer/73xxv140.pdf; ComponentLink3Description: Package Specification; ComponentLink3URL: http://www.holtek.com/english/literature/package.pdf
footprint SOT89_N (SOT89, 3-Leads, Body 4.5x2.4 mm, Pitch 1.5mm, Lead Span 4.1mm, IPC Medium Density)
footprint SOT89_L (SOT89, 3-Leads, Body 4.5x2.4 mm, Pitch 1.5mm, Lead Span 4.1mm, IPC High Density)
footprint SOT89_M (SOT89, 3-Leads, Body 4.5x2.4 mm, Pitch 1.5mm, Lead Span 4.1mm, IPC Low Density)
pins: 1 GND (power), 2 IN (power), 3 OUT (power)

## HT7327-TO92
designator U?
Low Power Consumption LDO, Output Voltage 2.7V, TO92 Pkg; DatasheetVersion: Rev1.4, Jan-2006; PackageVersion: 25/05/2010; PackageReference: TO92; PackageDescription: 3-pin TO92, Body Dia. 4.7mm; Lead Dia. 0.51 mm (max); ComponentLink1Description: Manufacturer URL; ComponentLink1URL: http://www.holtek.com/; ComponentLink2Description: Datasheet; ComponentLink2URL: http://www.holtek.com/pdf/consumer/73xxv140.pdf; ComponentLink3Description: Package Specification; ComponentLink3URL: http://www.holtek.com/english/literature/package.pdf
footprint TO92 (TO, Flat Index; 3 In-Line, Axial Leads; Body Dia. 4.7mm; Lead Dia. 0.51 mm (max))
pins: 1 GND (power), 2 IN (power), 3 OUT (power)

## HT7330-SOT89
designator U?
Low Power Consumption LDO, Output Voltage 3.0V, SOT89 Pkg; DatasheetVersion: Rev1.4, Jan-2006; PackageVersion: 25/05/2010; PackageReference: SOT89; PackageDescription: 3-Pin SOT-89 Package 1.5 mm Pitch, 4.1 mm Lead Span; Code_IPC: SOT89; ComponentLink1Description: Manufacturer URL; ComponentLink1URL: http://www.holtek.com/; ComponentLink2Description: Datasheet; ComponentLink2URL: http://www.holtek.com/pdf/consumer/73xxv140.pdf; ComponentLink3Description: Package Specification; ComponentLink3URL: http://www.holtek.com/english/literature/package.pdf
footprint SOT89_N (SOT89, 3-Leads, Body 4.5x2.4 mm, Pitch 1.5mm, Lead Span 4.1mm, IPC Medium Density)
footprint SOT89_L (SOT89, 3-Leads, Body 4.5x2.4 mm, Pitch 1.5mm, Lead Span 4.1mm, IPC High Density)
footprint SOT89_M (SOT89, 3-Leads, Body 4.5x2.4 mm, Pitch 1.5mm, Lead Span 4.1mm, IPC Low Density)
pins: 1 GND (power), 2 IN (power), 3 OUT (power)

## HT7330-TO92
designator U?
Low Power Consumption LDO, Output Voltage 3.0V, TO92 Pkg; DatasheetVersion: Rev1.4, Jan-2006; PackageVersion: 25/05/2010; PackageReference: TO92; PackageDescription: 3-pin TO92, Body Dia. 4.7mm; Lead Dia. 0.51 mm (max); ComponentLink1Description: Manufacturer URL; ComponentLink1URL: http://www.holtek.com/; ComponentLink2Description: Datasheet; ComponentLink2URL: http://www.holtek.com/pdf/consumer/73xxv140.pdf; ComponentLink3Description: Package Specification; ComponentLink3URL: http://www.holtek.com/english/literature/package.pdf
footprint TO92 (TO, Flat Index; 3 In-Line, Axial Leads; Body Dia. 4.7mm; Lead Dia. 0.51 mm (max))
pins: 1 GND (power), 2 IN (power), 3 OUT (power)

## HT7333-SOT89
designator U?
Low Power Consumption LDO, Output Voltage 3.3V, SOT89 Pkg; DatasheetVersion: Rev1.4, Jan-2006; PackageVersion: 25/05/2010; PackageReference: SOT89; PackageDescription: 3-Pin SOT-89 Package 1.5 mm Pitch, 4.1 mm Lead Span; Code_IPC: SOT89; ComponentLink1Description: Manufacturer URL; ComponentLink1URL: http://www.holtek.com/; ComponentLink2Description: Datasheet; ComponentLink2URL: http://www.holtek.com/pdf/consumer/73xxv140.pdf; ComponentLink3Description: Package Specification; ComponentLink3URL: http://www.holtek.com/english/literature/package.pdf
footprint SOT89_N (SOT89, 3-Leads, Body 4.5x2.4 mm, Pitch 1.5mm, Lead Span 4.1mm, IPC Medium Density)
footprint SOT89_L (SOT89, 3-Leads, Body 4.5x2.4 mm, Pitch 1.5mm, Lead Span 4.1mm, IPC High Density)
footprint SOT89_M (SOT89, 3-Leads, Body 4.5x2.4 mm, Pitch 1.5mm, Lead Span 4.1mm, IPC Low Density)
pins: 1 GND (power), 2 IN (power), 3 OUT (power)

## HT7333-TO92
designator U?
Low Power Consumption LDO, Output Voltage 3.3V, TO92 Pkg; DatasheetVersion: Rev1.4, Jan-2006; PackageVersion: 25/05/2010; PackageReference: TO92; PackageDescription: 3-pin TO92, Body Dia. 4.7mm; Lead Dia. 0.51 mm (max); ComponentLink1Description: Manufacturer URL; ComponentLink1URL: http://www.holtek.com/; ComponentLink2Description: Datasheet; ComponentLink2URL: http://www.holtek.com/pdf/consumer/73xxv140.pdf; ComponentLink3Description: Package Specification; ComponentLink3URL: http://www.holtek.com/english/literature/package.pdf
footprint TO92 (TO, Flat Index; 3 In-Line, Axial Leads; Body Dia. 4.7mm; Lead Dia. 0.51 mm (max))
pins: 1 GND (power), 2 IN (power), 3 OUT (power)

## HT7335-SOT89
designator U?
Low Power Consumption LDO, Output Voltage 3.5V, SOT89 Pkg; DatasheetVersion: Rev1.4, Jan-2006; PackageVersion: 25/05/2010; PackageReference: SOT89; PackageDescription: 3-Pin SOT-89 Package 1.5 mm Pitch, 4.1 mm Lead Span; Code_IPC: SOT89; ComponentLink1Description: Manufacturer URL; ComponentLink1URL: http://www.holtek.com/; ComponentLink2Description: Datasheet; ComponentLink2URL: http://www.holtek.com/pdf/consumer/73xxv140.pdf; ComponentLink3Description: Package Specification; ComponentLink3URL: http://www.holtek.com/english/literature/package.pdf
footprint SOT89_N (SOT89, 3-Leads, Body 4.5x2.4 mm, Pitch 1.5mm, Lead Span 4.1mm, IPC Medium Density)
footprint SOT89_L (SOT89, 3-Leads, Body 4.5x2.4 mm, Pitch 1.5mm, Lead Span 4.1mm, IPC High Density)
footprint SOT89_M (SOT89, 3-Leads, Body 4.5x2.4 mm, Pitch 1.5mm, Lead Span 4.1mm, IPC Low Density)
pins: 1 GND (power), 2 IN (power), 3 OUT (power)

## HT7335-TO92
designator U?
Low Power Consumption LDO, Output Voltage 3.5V, TO92 Pkg; DatasheetVersion: Rev1.4, Jan-2006; PackageVersion: 25/05/2010; PackageReference: TO92; PackageDescription: 3-pin TO92, Body Dia. 4.7mm; Lead Dia. 0.51 mm (max); ComponentLink1Description: Manufacturer URL; ComponentLink1URL: http://www.holtek.com/; ComponentLink2Description: Datasheet; ComponentLink2URL: http://www.holtek.com/pdf/consumer/73xxv140.pdf; ComponentLink3Description: Package Specification; ComponentLink3URL: http://www.holtek.com/english/literature/package.pdf
footprint TO92 (TO, Flat Index; 3 In-Line, Axial Leads; Body Dia. 4.7mm; Lead Dia. 0.51 mm (max))
pins: 1 GND (power), 2 IN (power), 3 OUT (power)

## HT7350-SOT89
designator U?
Low Power Consumption LDO, Output Voltage 5.0V, SOT89 Pkg; DatasheetVersion: Rev1.4, Jan-2006; PackageVersion: 25/05/2010; PackageReference: SOT89; PackageDescription: 3-Pin SOT-89 Package 1.5 mm Pitch, 4.1 mm Lead Span; Code_IPC: SOT89; ComponentLink1Description: Manufacturer URL; ComponentLink1URL: http://www.holtek.com/; ComponentLink2Description: Datasheet; ComponentLink2URL: http://www.holtek.com/pdf/consumer/73xxv140.pdf; ComponentLink3Description: Package Specification; ComponentLink3URL: http://www.holtek.com/english/literature/package.pdf
footprint SOT89_N (SOT89, 3-Leads, Body 4.5x2.4 mm, Pitch 1.5mm, Lead Span 4.1mm, IPC Medium Density)
footprint SOT89_L (SOT89, 3-Leads, Body 4.5x2.4 mm, Pitch 1.5mm, Lead Span 4.1mm, IPC High Density)
footprint SOT89_M (SOT89, 3-Leads, Body 4.5x2.4 mm, Pitch 1.5mm, Lead Span 4.1mm, IPC Low Density)
pins: 1 GND (power), 2 IN (power), 3 OUT (power)

## HT7350-TO92
designator U?
Low Power Consumption LDO, Output Voltage 5.0V, TO92 Pkg; DatasheetVersion: Rev1.4, Jan-2006; PackageVersion: 25/05/2010; PackageReference: TO92; PackageDescription: 3-pin TO92, Body Dia. 4.7mm; Lead Dia. 0.51 mm (max); ComponentLink1Description: Manufacturer URL; ComponentLink1URL: http://www.holtek.com/; ComponentLink2Description: Datasheet; ComponentLink2URL: http://www.holtek.com/pdf/consumer/73xxv140.pdf; ComponentLink3Description: Package Specification; ComponentLink3URL: http://www.holtek.com/english/literature/package.pdf
footprint TO92 (TO, Flat Index; 3 In-Line, Axial Leads; Body Dia. 4.7mm; Lead Dia. 0.51 mm (max))
pins: 1 GND (power), 2 IN (power), 3 OUT (power)

## HT7521_1-SOT89
designator U?
100mA Low Power LDO, Output Voltage 2.1V, SOT89 Pkg; DatasheetVersion: Rev1.80, Mar-2010; PackageVersion: 25/05/2010; PackageReference: SOT89; PackageDescription: 3-Pin SOT-89 Package 1.5 mm Pitch, 4.1 mm Lead Span; Code_IPC: SOT89; ComponentLink1Description: Manufacturer URL; ComponentLink1URL: http://www.holtek.com/; ComponentLink2Description: Datasheet; ComponentLink2URL: http://www.holtek.com/pdf/consumer/75xx_1v180.pdf; ComponentLink3Description: Package Specification; ComponentLink3URL: http://www.holtek.com/english/literature/package.pdf
footprint SOT89_N (SOT89, 3-Leads, Body 4.5x2.4 mm, Pitch 1.5mm, Lead Span 4.1mm, IPC Medium Density)
footprint SOT89_L (SOT89, 3-Leads, Body 4.5x2.4 mm, Pitch 1.5mm, Lead Span 4.1mm, IPC High Density)
footprint SOT89_M (SOT89, 3-Leads, Body 4.5x2.4 mm, Pitch 1.5mm, Lead Span 4.1mm, IPC Low Density)
pins: 1 GND (power), 2 IN (power), 3 OUT (power)

## HT7521_1-TO92
designator U?
100mA Low Power LDO, Output Voltage 2.1V, TO92 Pkg; DatasheetVersion: Rev1.80, Mar-2010; PackageVersion: 25/05/2010; PackageReference: TO92; PackageDescription: 3-pin TO92, Body Dia. 4.7mm; Lead Dia. 0.51 mm (max); ComponentLink1Description: Manufacturer URL; ComponentLink1URL: http://www.holtek.com/; ComponentLink2Description: Datasheet; ComponentLink2URL: http://www.holtek.com/pdf/consumer/75xx_1v180.pdf; ComponentLink3Description: Package Specification; ComponentLink3URL: http://www.holtek.com/english/literature/package.pdf
footprint TO92 (TO, Flat Index; 3 In-Line, Axial Leads; Body Dia. 4.7mm; Lead Dia. 0.51 mm (max))
pins: 1 GND (power), 2 IN (power), 3 OUT (power)

## HT7523_1-SOT89
designator U?
100mA Low Power LDO, Output Voltage 2.3V, SOT89 Pkg; DatasheetVersion: Rev1.80, Mar-2010; PackageVersion: 25/05/2010; PackageReference: SOT89; PackageDescription: 3-Pin SOT-89 Package 1.5 mm Pitch, 4.1 mm Lead Span; Code_IPC: SOT89; ComponentLink1Description: Manufacturer URL; ComponentLink1URL: http://www.holtek.com/; ComponentLink2Description: Datasheet; ComponentLink2URL: http://www.holtek.com/pdf/consumer/75xx_1v180.pdf; ComponentLink3Description: Package Specification; ComponentLink3URL: http://www.holtek.com/english/literature/package.pdf
footprint SOT89_N (SOT89, 3-Leads, Body 4.5x2.4 mm, Pitch 1.5mm, Lead Span 4.1mm, IPC Medium Density)
footprint SOT89_L (SOT89, 3-Leads, Body 4.5x2.4 mm, Pitch 1.5mm, Lead Span 4.1mm, IPC High Density)
footprint SOT89_M (SOT89, 3-Leads, Body 4.5x2.4 mm, Pitch 1.5mm, Lead Span 4.1mm, IPC Low Density)
pins: 1 GND (power), 2 IN (power), 3 OUT (power)

## HT7523_1-TO92
designator U?
100mA Low Power LDO, Output Voltage 2.3V, TO92 Pkg; DatasheetVersion: Rev1.80, Mar-2010; PackageVersion: 25/05/2010; PackageReference: TO92; PackageDescription: 3-pin TO92, Body Dia. 4.7mm; Lead Dia. 0.51 mm (max); ComponentLink1Description: Manufacturer URL; ComponentLink1URL: http://www.holtek.com/; ComponentLink2Description: Datasheet; ComponentLink2URL: http://www.holtek.com/pdf/consumer/75xx_1v180.pdf; ComponentLink3Description: Package Specification; ComponentLink3URL: http://www.holtek.com/english/literature/package.pdf
footprint TO92 (TO, Flat Index; 3 In-Line, Axial Leads; Body Dia. 4.7mm; Lead Dia. 0.51 mm (max))
pins: 1 GND (power), 2 IN (power), 3 OUT (power)

## HT7525_1-SOT89
designator U?
100mA Low Power LDO, Output Voltage 2.5V, SOT89 Pkg; DatasheetVersion: Rev1.80, Mar-2010; PackageVersion: 25/05/2010; PackageReference: SOT89; PackageDescription: 3-Pin SOT-89 Package 1.5 mm Pitch, 4.1 mm Lead Span; Code_IPC: SOT89; ComponentLink1Description: Manufacturer URL; ComponentLink1URL: http://www.holtek.com/; ComponentLink2Description: Datasheet; ComponentLink2URL: http://www.holtek.com/pdf/consumer/75xx_1v180.pdf; ComponentLink3Description: Package Specification; ComponentLink3URL: http://www.holtek.com/english/literature/package.pdf
footprint SOT89_N (SOT89, 3-Leads, Body 4.5x2.4 mm, Pitch 1.5mm, Lead Span 4.1mm, IPC Medium Density)
footprint SOT89_L (SOT89, 3-Leads, Body 4.5x2.4 mm, Pitch 1.5mm, Lead Span 4.1mm, IPC High Density)
footprint SOT89_M (SOT89, 3-Leads, Body 4.5x2.4 mm, Pitch 1.5mm, Lead Span 4.1mm, IPC Low Density)
pins: 1 GND (power), 2 IN (power), 3 OUT (power)

## HT7525_1-TO92
designator U?
100mA Low Power LDO, Output Voltage 2.5V, TO92 Pkg; DatasheetVersion: Rev1.80, Mar-2010; PackageVersion: 25/05/2010; PackageReference: TO92; PackageDescription: 3-pin TO92, Body Dia. 4.7mm; Lead Dia. 0.51 mm (max); ComponentLink1Description: Manufacturer URL; ComponentLink1URL: http://www.holtek.com/; ComponentLink2Description: Datasheet; ComponentLink2URL: http://www.holtek.com/pdf/consumer/75xx_1v180.pdf; ComponentLink3Description: Package Specification; ComponentLink3URL: http://www.holtek.com/english/literature/package.pdf
footprint TO92 (TO, Flat Index; 3 In-Line, Axial Leads; Body Dia. 4.7mm; Lead Dia. 0.51 mm (max))
pins: 1 GND (power), 2 IN (power), 3 OUT (power)

## HT7527_1-SOT89
designator U?
100mA Low Power LDO, Output Voltage 2.7V, SOT89 Pkg; DatasheetVersion: Rev1.80, Mar-2010; PackageVersion: 25/05/2010; PackageReference: SOT89; PackageDescription: 3-Pin SOT-89 Package 1.5 mm Pitch, 4.1 mm Lead Span; Code_IPC: SOT89; ComponentLink1Description: Manufacturer URL; ComponentLink1URL: http://www.holtek.com/; ComponentLink2Description: Datasheet; ComponentLink2URL: http://www.holtek.com/pdf/consumer/75xx_1v180.pdf; ComponentLink3Description: Package Specification; ComponentLink3URL: http://www.holtek.com/english/literature/package.pdf
footprint SOT89_N (SOT89, 3-Leads, Body 4.5x2.4 mm, Pitch 1.5mm, Lead Span 4.1mm, IPC Medium Density)
footprint SOT89_L (SOT89, 3-Leads, Body 4.5x2.4 mm, Pitch 1.5mm, Lead Span 4.1mm, IPC High Density)
footprint SOT89_M (SOT89, 3-Leads, Body 4.5x2.4 mm, Pitch 1.5mm, Lead Span 4.1mm, IPC Low Density)
pins: 1 GND (power), 2 IN (power), 3 OUT (power)

## HT7527_1-TO92
designator U?
100mA Low Power LDO, Output Voltage 2.7V, TO92 Pkg; DatasheetVersion: Rev1.80, Mar-2010; PackageVersion: 25/05/2010; PackageReference: TO92; PackageDescription: 3-pin TO92, Body Dia. 4.7mm; Lead Dia. 0.51 mm (max); ComponentLink1Description: Manufacturer URL; ComponentLink1URL: http://www.holtek.com/; ComponentLink2Description: Datasheet; ComponentLink2URL: http://www.holtek.com/pdf/consumer/75xx_1v180.pdf; ComponentLink3Description: Package Specification; ComponentLink3URL: http://www.holtek.com/english/literature/package.pdf
footprint TO92 (TO, Flat Index; 3 In-Line, Axial Leads; Body Dia. 4.7mm; Lead Dia. 0.51 mm (max))
pins: 1 GND (power), 2 IN (power), 3 OUT (power)

## HT7530_1-SOT89
designator U?
100mA Low Power LDO, Output Voltage 3.0V, SOT89 Pkg; DatasheetVersion: Rev1.80, Mar-2010; PackageVersion: 25/05/2010; PackageReference: SOT89; PackageDescription: 3-Pin SOT-89 Package 1.5 mm Pitch, 4.1 mm Lead Span; Code_IPC: SOT89; ComponentLink1Description: Manufacturer URL; ComponentLink1URL: http://www.holtek.com/; ComponentLink2Description: Datasheet; ComponentLink2URL: http://www.holtek.com/pdf/consumer/75xx_1v180.pdf; ComponentLink3Description: Package Specification; ComponentLink3URL: http://www.holtek.com/english/literature/package.pdf
footprint SOT89_N (SOT89, 3-Leads, Body 4.5x2.4 mm, Pitch 1.5mm, Lead Span 4.1mm, IPC Medium Density)
footprint SOT89_L (SOT89, 3-Leads, Body 4.5x2.4 mm, Pitch 1.5mm, Lead Span 4.1mm, IPC High Density)
footprint SOT89_M (SOT89, 3-Leads, Body 4.5x2.4 mm, Pitch 1.5mm, Lead Span 4.1mm, IPC Low Density)
pins: 1 GND (power), 2 IN (power), 3 OUT (power)

## HT7530_1-TO92
designator U?
100mA Low Power LDO, Output Voltage 3.0V, TO92 Pkg; DatasheetVersion: Rev1.80, Mar-2010; PackageVersion: 25/05/2010; PackageReference: TO92; PackageDescription: 3-pin TO92, Body Dia. 4.7mm; Lead Dia. 0.51 mm (max); ComponentLink1Description: Manufacturer URL; ComponentLink1URL: http://www.holtek.com/; ComponentLink2Description: Datasheet; ComponentLink2URL: http://www.holtek.com/pdf/consumer/75xx_1v180.pdf; ComponentLink3Description: Package Specification; ComponentLink3URL: http://www.holtek.com/english/literature/package.pdf
footprint TO92 (TO, Flat Index; 3 In-Line, Axial Leads; Body Dia. 4.7mm; Lead Dia. 0.51 mm (max))
pins: 1 GND (power), 2 IN (power), 3 OUT (power)

## HT7533_1-SOT89
designator U?
100mA Low Power LDO, Output Voltage 3.3V, SOT89 Pkg; DatasheetVersion: Rev1.80, Mar-2010; PackageVersion: 25/05/2010; PackageReference: SOT89; PackageDescription: 3-Pin SOT-89 Package 1.5 mm Pitch, 4.1 mm Lead Span; Code_IPC: SOT89; ComponentLink1Description: Manufacturer URL; ComponentLink1URL: http://www.holtek.com/; ComponentLink2Description: Datasheet; ComponentLink2URL: http://www.holtek.com/pdf/consumer/75xx_1v180.pdf; ComponentLink3Description: Package Specification; ComponentLink3URL: http://www.holtek.com/english/literature/package.pdf
footprint SOT89_N (SOT89, 3-Leads, Body 4.5x2.4 mm, Pitch 1.5mm, Lead Span 4.1mm, IPC Medium Density)
footprint SOT89_L (SOT89, 3-Leads, Body 4.5x2.4 mm, Pitch 1.5mm, Lead Span 4.1mm, IPC High Density)
footprint SOT89_M (SOT89, 3-Leads, Body 4.5x2.4 mm, Pitch 1.5mm, Lead Span 4.1mm, IPC Low Density)
pins: 1 GND (power), 2 IN (power), 3 OUT (power)

## HT7533_1-TO92
designator U?
100mA Low Power LDO, Output Voltage 3.3V, TO92 Pkg; DatasheetVersion: Rev1.80, Mar-2010; PackageVersion: 25/05/2010; PackageReference: TO92; PackageDescription: 3-pin TO92, Body Dia. 4.7mm; Lead Dia. 0.51 mm (max); ComponentLink1Description: Manufacturer URL; ComponentLink1URL: http://www.holtek.com/; ComponentLink2Description: Datasheet; ComponentLink2URL: http://www.holtek.com/pdf/consumer/75xx_1v180.pdf; ComponentLink3Description: Package Specification; ComponentLink3URL: http://www.holtek.com/english/literature/package.pdf
footprint TO92 (TO, Flat Index; 3 In-Line, Axial Leads; Body Dia. 4.7mm; Lead Dia. 0.51 mm (max))
pins: 1 GND (power), 2 IN (power), 3 OUT (power)

## HT7536_1-SOT89
designator U?
100mA Low Power LDO, Output Voltage 3.6V, SOT89 Pkg; DatasheetVersion: Rev1.80, Mar-2010; PackageVersion: 25/05/2010; PackageReference: SOT89; PackageDescription: 3-Pin SOT-89 Package 1.5 mm Pitch, 4.1 mm Lead Span; Code_IPC: SOT89; ComponentLink1Description: Manufacturer URL; ComponentLink1URL: http://www.holtek.com/; ComponentLink2Description: Datasheet; ComponentLink2URL: http://www.holtek.com/pdf/consumer/75xx_1v180.pdf; ComponentLink3Description: Package Specification; ComponentLink3URL: http://www.holtek.com/english/literature/package.pdf
footprint SOT89_N (SOT89, 3-Leads, Body 4.5x2.4 mm, Pitch 1.5mm, Lead Span 4.1mm, IPC Medium Density)
footprint SOT89_L (SOT89, 3-Leads, Body 4.5x2.4 mm, Pitch 1.5mm, Lead Span 4.1mm, IPC High Density)
footprint SOT89_M (SOT89, 3-Leads, Body 4.5x2.4 mm, Pitch 1.5mm, Lead Span 4.1mm, IPC Low Density)
pins: 1 GND (power), 2 IN (power), 3 OUT (power)